# Altium footprint library 10147606-0000xLF.PcbLib: 19 footprints (part 2 of 2)
Each footprint in its own frame and in the unit in brackets; x right, y up, seen from the top. Pads: shape width x height; smd on the part's side, far side on the other; paste and mask are expansions set on the pad; w line width, h text height; cw(c..) or ccw(c..) is an arc to the next point about the centre after c.
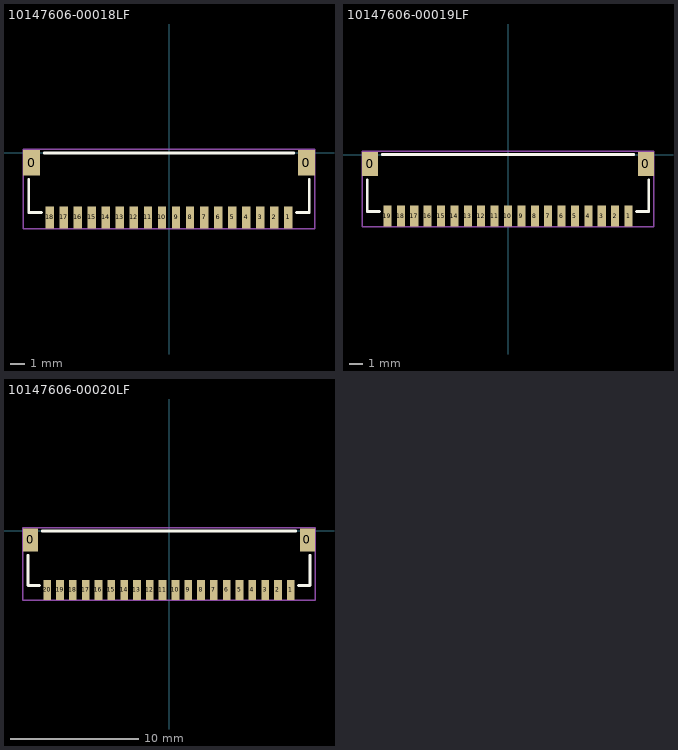
[diagram p1: the footprints below, top view; thin cyan lines are the x and y axes]

## 10147606-00018LF [mm]
pads (20):
  rect 1.2x1.8 smd: 0(-9.8,-0.7) 0(9.8,-0.7)
  rect 0.6x1.55 smd: 1(8.5,-4.6) 2(7.5,-4.6) 3(6.5,-4.6) 4(5.5,-4.6) 5(4.5,-4.6) 6(3.5,-4.6) 7(2.5,-4.6) 8(1.5,-4.6) 9(0.5,-4.6) 10(-0.5,-4.6) 11(-1.5,-4.6) 12(-2.5,-4.6) 13(-3.5,-4.6) 14(-4.5,-4.6) 15(-5.5,-4.6) 16(-6.5,-4.6) 17(-7.5,-4.6) 18(-8.5,-4.6)
Top Overlay:
  lines w0.2: -10,-1.9 -10,-4.25 -9.1,-4.25 ; -8.9,0 8.9,0 ; 9.1,-4.25 10,-4.25 10,-1.9
Border:
  lines w0.1: -10.4,-5.4 10.4,-5.4 10.4,0.25 -10.4,0.25 -10.4,-5.4
3D body "10147606-00018LF.stp": height 3, standoff 0, extent -10,-4.95 10,0

## 10147606-00019LF [mm]
pads (21):
  rect 1.2x1.8 smd: 0(-10.3,-0.7) 0(10.3,-0.7)
  rect 0.6x1.55 smd: 1(9,-4.6) 2(8,-4.6) 3(7,-4.6) 4(6,-4.6) 5(5,-4.6) 6(4,-4.6) 7(3,-4.6) 8(2,-4.6) 9(1,-4.6) 10(0,-4.6) 11(-1,-4.6) 12(-2,-4.6) 13(-3,-4.6) 14(-4,-4.6) 15(-5,-4.6) 16(-6,-4.6) 17(-7,-4.6) 18(-8,-4.6) 19(-9,-4.6)
Top Overlay:
  lines w0.2: -10.5,-1.9 -10.5,-4.25 -9.6,-4.25 ; -9.4,0 9.4,0 ; 9.6,-4.25 10.5,-4.25 10.5,-1.9
Border:
  lines w0.1: -10.9,-5.4 10.9,-5.4 10.9,0.25 -10.9,0.25 -10.9,-5.4
3D body "10147606-00019LF.stp": height 3, standoff 0, extent -10.5,-4.95 10.5,0

## 10147606-00020LF [mm]
pads (22):
  rect 1.2x1.8 smd: 0(-10.8,-0.7) 0(10.8,-0.7)
  rect 0.6x1.55 smd: 1(9.5,-4.6) 2(8.5,-4.6) 3(7.5,-4.6) 4(6.5,-4.6) 5(5.5,-4.6) 6(4.5,-4.6) 7(3.5,-4.6) 8(2.5,-4.6) 9(1.5,-4.6) 10(0.5,-4.6) 11(-0.5,-4.6) 12(-1.5,-4.6) 13(-2.5,-4.6) 14(-3.5,-4.6) 15(-4.5,-4.6) 16(-5.5,-4.6) 17(-6.5,-4.6) 18(-7.5,-4.6) 19(-8.5,-4.6) 20(-9.5,-4.6)
Top Overlay:
  lines w0.2: -11,-1.9 -11,-4.25 -10.1,-4.25 ; -9.9,0 9.9,0 ; 10.1,-4.25 11,-4.25 11,-1.9
Border:
  lines w0.1: -11.4,-5.4 11.4,-5.4 11.4,0.25 -11.4,0.25 -11.4,-5.4
3D body "10147606-00020LF.stp": height 3, standoff 0, extent -11,-4.95 11,0